# EAGLE library part OPA2335 (library gumsense)
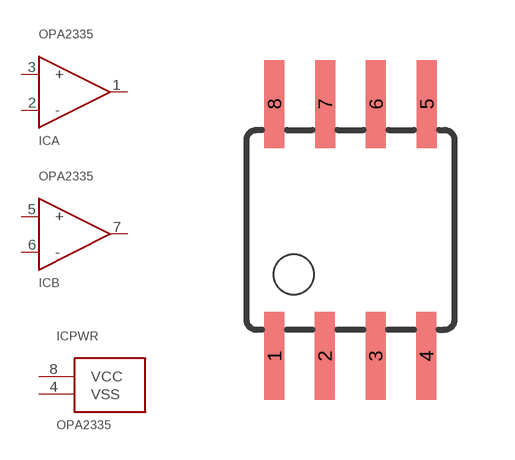
[diagram p5: symbol with the pads of SOIC8; footprint SOIC8]

Designator prefix IC; gates A=OP-AMP B=OP-AMP PWR=PWR

## OPA2335D  [SOIC8]
1  A:OUT
2  A:-
3  A:+
4  PWR:VSS
5  B:+
6  B:-
7  B:OUT
8  PWR:VCC

## Footprint SOIC8 (pad centres in mm)
Wide Plastic Gull Wing Small Outline Package
smd 0.5 x 2.2: 1 -1.905,-3.154; 2 -0.645,-3.154; 3 0.625,-3.154; 4 1.895,-3.154; 5 1.905,3.154; 6 0.635,3.154; 7 -0.635,3.154; 8 -1.905,3.154